# EAGLE library part ARDUINO-SHIELD-SD7735-SD (library Coert Vonk maybe old)
Footprint of 1.8" Color TFT LCD display with MicroSD Card Shield - ST7735Rr Link to part <https://learn.adafruit.com/1-8-tft-display/1-8-tft-shield>
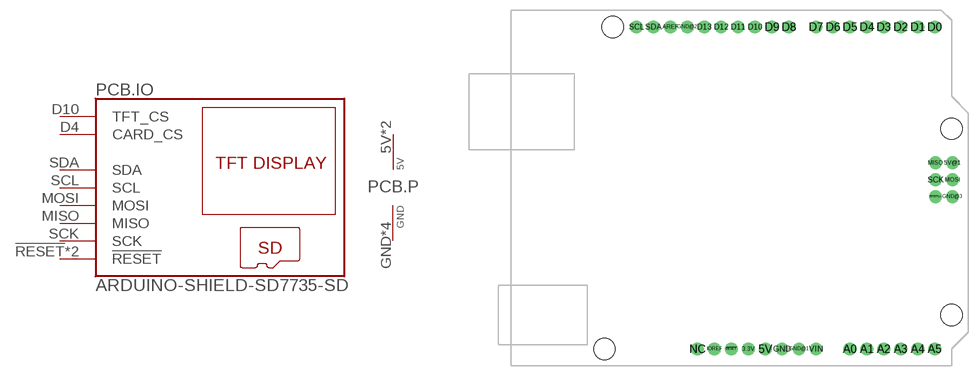
[diagram p17: symbol with the pads of ARDIONO-SHIELD; footprint ARDIONO-SHIELD]

Designator prefix PCB; gates .IO=ARDUINO-SHIELD-SD7735-SD-IO .P=5V-GND

## ARDUINO-SHIELD-SD7735-SD  [ARDIONO-SHIELD]
5V  .P:5V  pas
5V@1  .P:5V  pas
!RESET!  .IO:!RESET!
!RESET!@1  .IO:!RESET!
D4  .IO:CARD_CS  in
D10  .IO:TFT_CS  in
GND  .P:GND  sup
GND@1  .P:GND  sup
GND@2  .P:GND  sup
GND@3  .P:GND  sup
MISO  .IO:MISO  out
MOSI  .IO:MOSI  in
SCK  .IO:SCK  in
SCL  .IO:SCL  in
SDA  .IO:SDA

## Footprint ARDIONO-SHIELD (pad centres in mm)
drill 1.016 pad 1.93: 3.3V 2.54,-22.86; 5V 5.08,-22.86; 5V@1 33.16,5.03; !RESET! 0,-22.86; !RESET!@1 30.62,-0.05; A0 17.78,-22.86; A1 20.32,-22.86; A2 22.86,-22.86; A3 25.4,-22.86; A4 27.94,-22.86; A5 30.48,-22.86; AREF -9.144,25.4; D0 30.48,25.4; D1 27.94,25.4; D2 25.4,25.4; D3 22.86,25.4; D4 20.32,25.4; D5 17.78,25.4; D6 15.24,25.4; D7 12.7,25.4; D8 8.636,25.4; D9 6.096,25.4; D10 3.556,25.4; D11 1.016,25.4; D12 -1.524,25.4; D13 -4.064,25.4; GND 7.62,-22.86; GND@1 10.16,-22.86; GND@2 -6.604,25.4; GND@3 33.16,-0.05; IOREF -2.54,-22.86; MISO 30.62,5.03; MOSI 33.16,2.49; NC -5.08,-22.86; SCK 30.62,2.49; SCL -14.224,25.4; SDA -11.684,25.4; VIN 12.7,-22.86
hole 3.175 at -17.78,25.4
hole 3.175 at 33.02,10.16
hole 3.175 at 33.02,-17.78
hole 3.175 at -19.05,-22.86